# EAGLE library part 87760-06 (library untitled)
HEADER
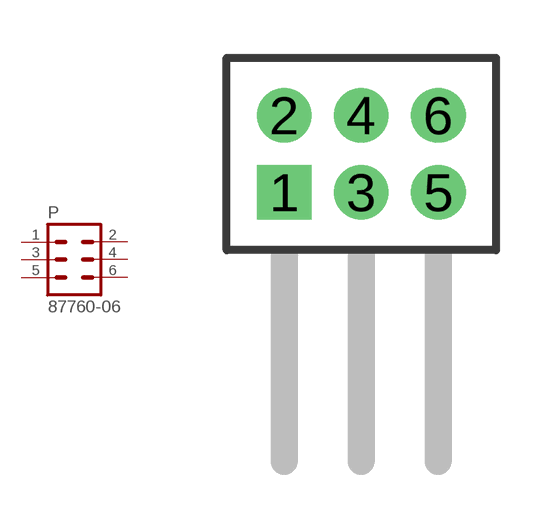
[diagram p45: symbol with the pads of 87760-06; footprint 87760-06]

Designator prefix P

## 87760-06  [87760-06]
1  1  pas
2  2  pas
3  3  pas
4  4  pas
5  5  pas
6  6  pas

## Footprint 87760-06 (pad centres in mm)
HEADER Dual Row, Right Angle
drill 0.914 square: 1 -2,-1
drill 0.914 round: 2 -2,1; 3 0,-1; 4 0,1; 5 2,-1; 6 2,1